# Altium schematic symbol library P160KN-0QC15B10K.SchLib: 1 symbol
Pins are listed as number, name and electrical type; pins without a type are passive.

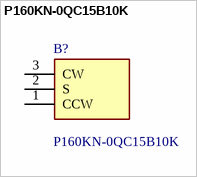
[diagram p0: symbol P160KN-0QC15B10K]

## P160KN-0QC15B10K
designator B?
Potentiometers 16mm Rotary Panel Potentiometer; Manufacturer_Name: TT Electronics; Geometry.Height: 16.5mm; Manufacturer_Part_Number: P160KN-0QC15B10K; Mouser Part Number: 858-P160KN-0QC15B10K; Mouser Price/Stock: https://www.mouser.co.uk/ProductDetail/BI-Technologies-TT-Electronics/P160KN-0QC15B10K?qs=%252BUYXD5bnyXowj%252Bd8P32cNw%3D%3D; Arrow Part Number: P160KN-0QC15B10K; Arrow Price/Stock: https://www.arrow.com/en/products/p160kn-0qc15b10k/bi-technologies; Datasheet Link: https://datasheet.datasheetarchive.com/originals/distributors/Datasheets-DGA21/91824.pdf
footprint P160KN0QC15B10K
pins: 1 CCW, 2 S, 3 CW